# Altium integrated library Linear Technology Comparators.IntLib: 630 symbols (part 23 of 24)
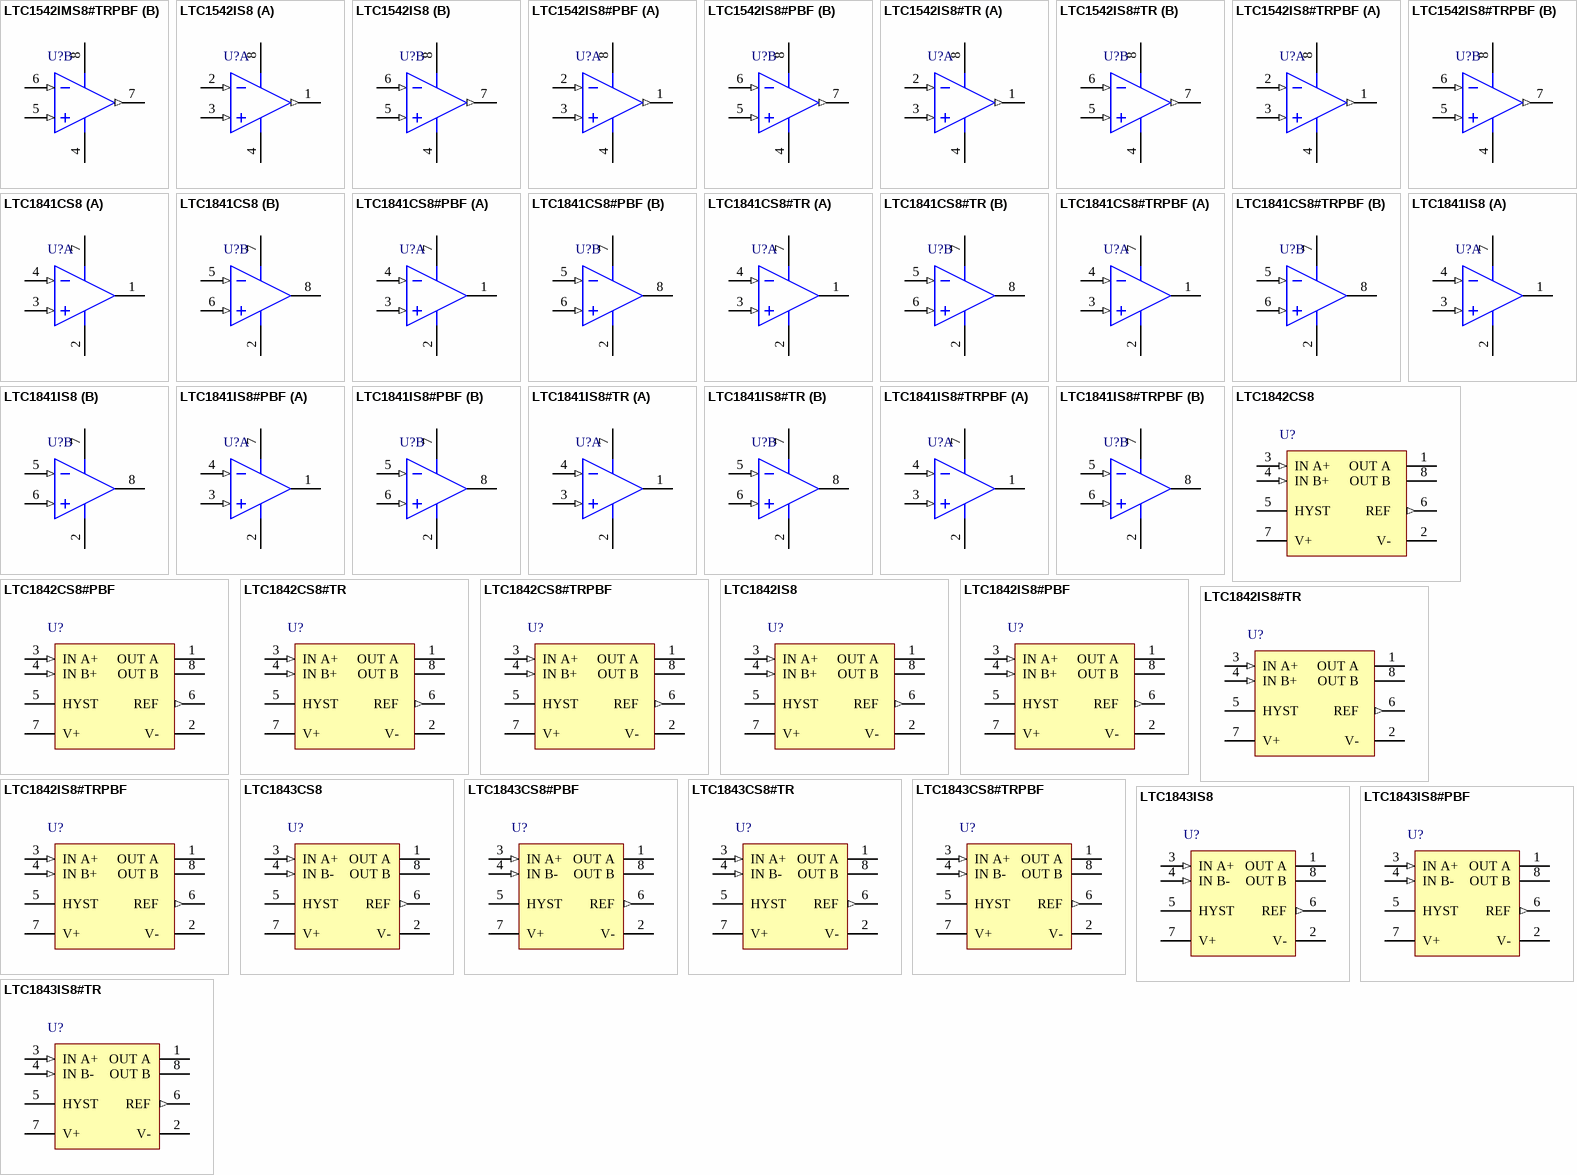
[diagram p46: symbols LTC1542IMS8#TRPBF to LTC1843IS8#TR]

## LTC1843IS8#TR
designator U?
Ultralow Power Comparator with Reference, 2 Channels, 2.5 to 11 V, -40 to +85 degC, 8-pin SOP (S8), Tape and Reel; Generic Part Number: LTC1843; Manufacturer: Linear Technology; PartNumber: LTC1843IS8#TR; Channels (#): 2; Prop Delay (us): 4; Supply Current (uA) Guaranteed: 5.7; Supply Current (uA) Typical: 3.5; Vos (mV) Guaranteed: 10; Vos (mV) Typical: 3; Vs Max (V): 11; PackageReference: S8; PackageDescription: 8-Pin Plastic Small Outline (Narrow .150 Inch), Body 4.9 x 3.9 mm, Pitch 1.27 mm; Supplier 1: Digi-Key; Supplier Part Number 1: LTC1843IS8#TR-ND; Features: Reference, Comparator; RoHS: N; Supply Voltage Range: 2.5 to 11 V; Vs Min (V): 2; Mounting Technology: Surface Mount; ComponentLink1Description: Manufacturer URL; ComponentLink1URL: http://www.linear.com/; ComponentLink2Description: Datasheet; ComponentLink2URL: http://cds.linear.com/docs/en/datasheet/184123f.pdf; ComponentLink3Description: Package Specification; ComponentLink3URL: http://cds.linear.com/docs/en/packaging/05081610_G_SO8.pdf
footprint LT-S8_N (SOP, 8-Leads, Body 4.9x3.9mm, Pitch 1.27mm, IPC Medium Density)
footprint LT-S8_L (SOP, 8-Leads, Body 4.9x3.9mm, Pitch 1.27mm, IPC High Density)
footprint LT-S8_M (SOP, 8-Leads, Body 4.9x3.9mm, Pitch 1.27mm, IPC Low Density)
pins: 1 OUT A (oc) "Comparator A Open-Drain Output. Output can typically sink greater than 20mA.", 2 V- (power) "Negative Supply.", 3 IN A+ (in) "Noninverting Input of Comparator A. Input common mode range extends from V - to V + - 1.3V. Input current is typically 10pA at 25degreesC.", 4 IN B- (in) "Inverting Input of Comparator B. Input common mode range extends from V - to V + - 1.3V. Input current is typically 10pA at 25degreesC.", 5 HYST "Hysteresis Input. Connect to REF if not used. Input voltage range is from VREF to VREF - 50mV.", 6 REF (out) "Reference Output. 1.182V with respect to V -. Can typically source greater than 1mA and sink 10mA at 25degreesC. Can drive 0.01mF bypass capacitor without oscillation.", 7 V+ (power) "Positive Supply. 2.5V to 11V.", 8 OUT B (oc) "Comparator B Open-Drain Output. Output can typically sink greater than 20mA."

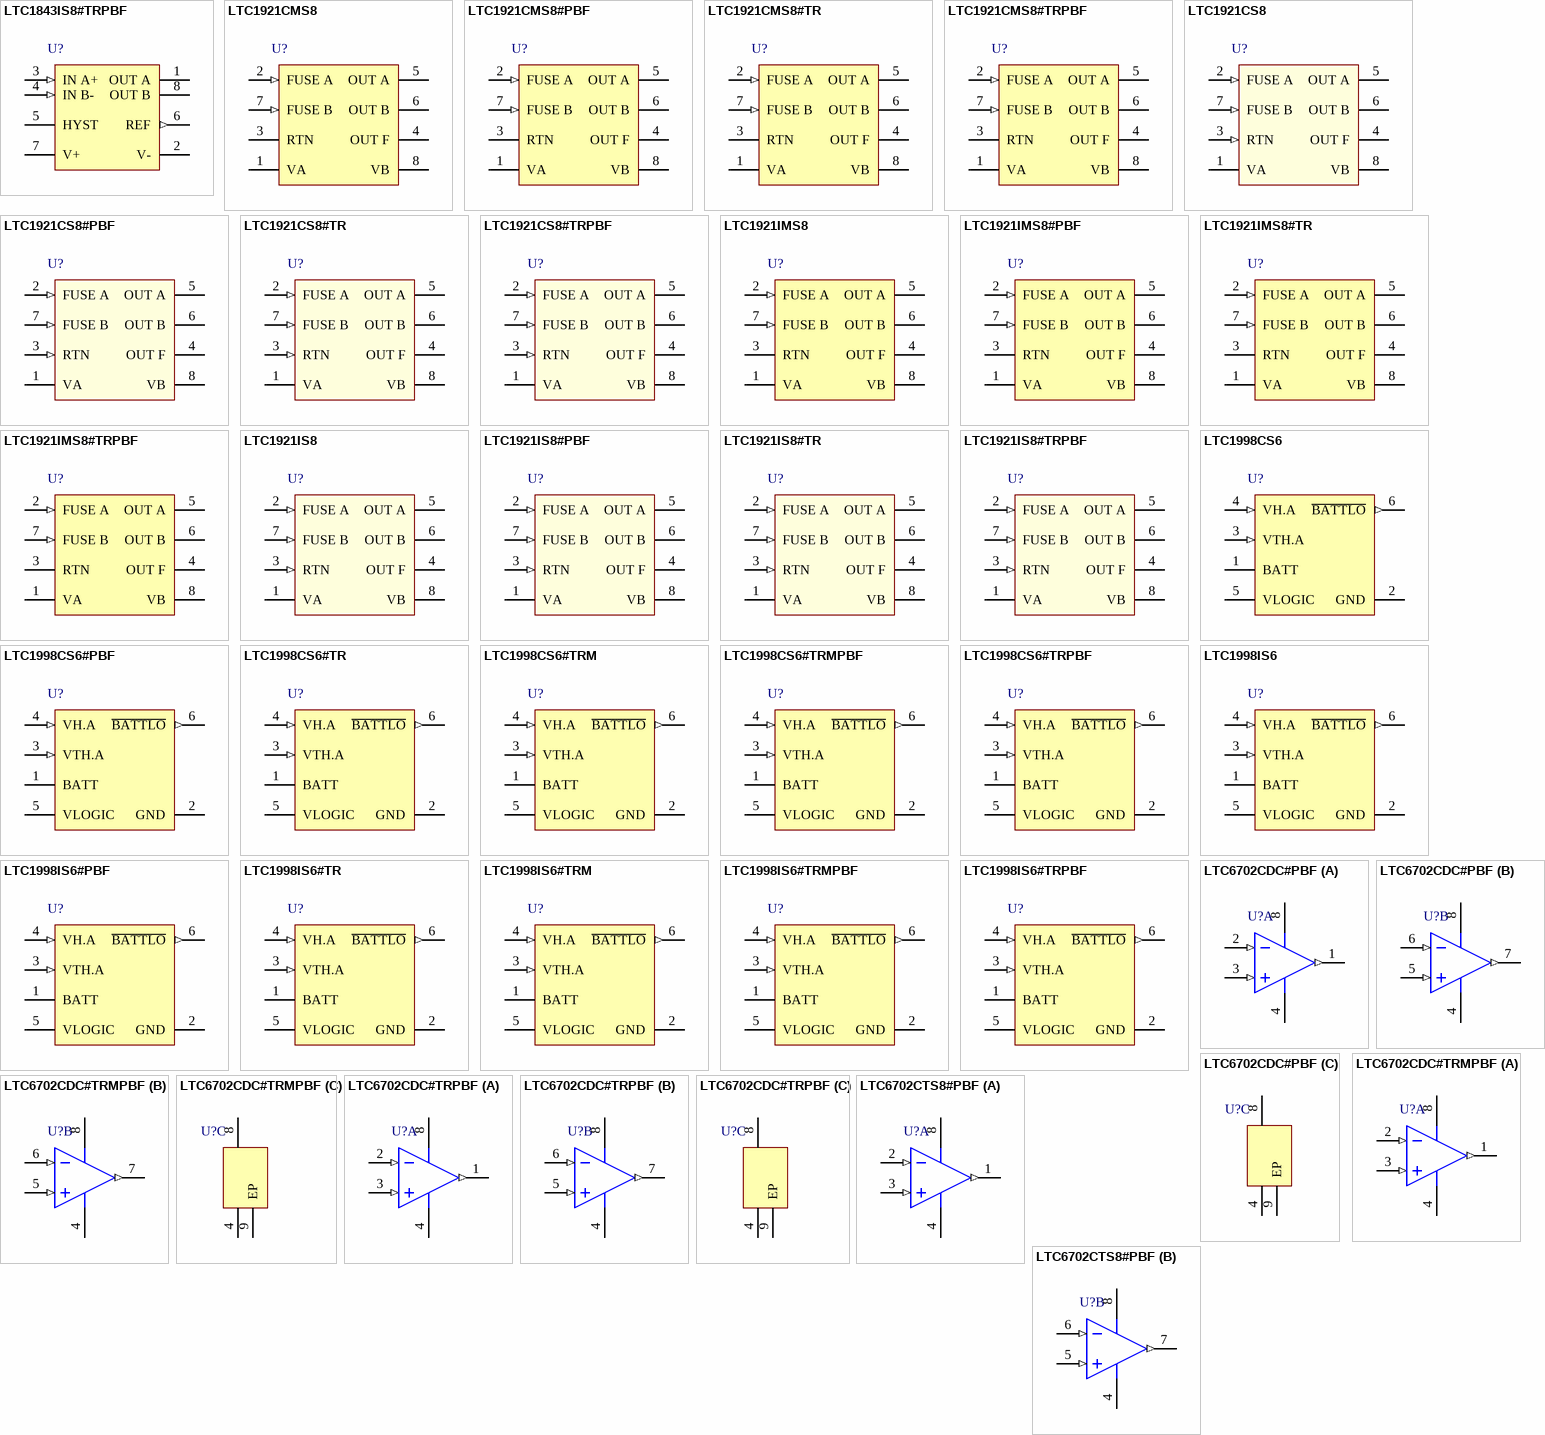
[diagram p23: symbols LTC1843IS8#TRPBF to LTC6702CTS8#PBF]

## LTC1843IS8#TRPBF
designator U?
Ultralow Power Comparator with Reference, 2 Channels, 2.5 to 11 V, -40 to +85 degC, 8-pin SOP (S8), Tape and Reel; Generic Part Number: LTC1843; Manufacturer: Linear Technology; PartNumber: LTC1843IS8#TRPBF; Channels (#): 2; Prop Delay (us): 4; Supply Current (uA) Guaranteed: 5.7; Supply Current (uA) Typical: 3.5; Vos (mV) Guaranteed: 10; Vos (mV) Typical: 3; Vs Max (V): 11; PackageReference: S8; PackageDescription: 8-Pin Plastic Small Outline (Narrow .150 Inch), Body 4.9 x 3.9 mm, Pitch 1.27 mm; Supplier 1: Digi-Key; Supplier Part Number 1: LTC1843IS8#TRPBF-ND; Features: Reference, Comparator; RoHS: Y; Supply Voltage Range: 2.5 to 11 V; Vs Min (V): 2; Mounting Technology: Surface Mount; ComponentLink1Description: Manufacturer URL; ComponentLink1URL: http://www.linear.com/; ComponentLink2Description: Datasheet; ComponentLink2URL: http://cds.linear.com/docs/en/datasheet/184123f.pdf; ComponentLink3Description: Package Specification; ComponentLink3URL: http://cds.linear.com/docs/en/packaging/05081610_G_SO8.pdf
footprint LT-S8_N (SOP, 8-Leads, Body 4.9x3.9mm, Pitch 1.27mm, IPC Medium Density)
footprint LT-S8_L (SOP, 8-Leads, Body 4.9x3.9mm, Pitch 1.27mm, IPC High Density)
footprint LT-S8_M (SOP, 8-Leads, Body 4.9x3.9mm, Pitch 1.27mm, IPC Low Density)
pins: 1 OUT A (oc) "Comparator A Open-Drain Output. Output can typically sink greater than 20mA.", 2 V- (power) "Negative Supply.", 3 IN A+ (in) "Noninverting Input of Comparator A. Input common mode range extends from V - to V + - 1.3V. Input current is typically 10pA at 25degreesC.", 4 IN B- (in) "Inverting Input of Comparator B. Input common mode range extends from V - to V + - 1.3V. Input current is typically 10pA at 25degreesC.", 5 HYST "Hysteresis Input. Connect to REF if not used. Input voltage range is from VREF to VREF - 50mV.", 6 REF (out) "Reference Output. 1.182V with respect to V -. Can typically source greater than 1mA and sink 10mA at 25degreesC. Can drive 0.01mF bypass capacitor without oscillation.", 7 V+ (power) "Positive Supply. 2.5V to 11V.", 8 OUT B (oc) "Comparator B Open-Drain Output. Output can typically sink greater than 20mA."

## LTC1921CMS8
designator U?
-48 V Supply and Fuse Monitor, 2 Channels, -10 to -80 V, 0 to +70 degC, 8-pin Plastic MSOP (MS8); Generic Part Number: LTC1921; Manufacturer: Linear Technology; PartNumber: LTC1921CMS8; Channels (#): 2; Prop Delay (us): 220; Supply Current (uA) Guaranteed: 250; Supply Current (uA) Typical: 160; Vs Max (V): 11; PackageReference: MS8; PackageDescription: 8-Pin Plastic MSOP, Body 3 x 3 mm, Pitch 0.65 mm; Features: Comparator; RoHS: N; Supply Voltage Range: -10 to -80 V; Vs Min (V): 2; Mounting Technology: Surface Mount; ComponentLink1Description: Manufacturer URL; ComponentLink1URL: http://www.linear.com/; ComponentLink2Description: Datasheet; ComponentLink2URL: http://cds.linear.com/docs/en/datasheet/1921f.pdf; ComponentLink3Description: Package Specification; ComponentLink3URL: http://cds.linear.com/docs/en/packaging/MSOP_8_05-08-1660.pdf
footprint LT-MS8_N (SOP, 8-Leads, Body 3x3mm, Pitch 0.65mm, IPC Medium Density)
footprint LT-MS8_L (SOP, 8-Leads, Body 3x3mm, Pitch 0.65mm, IPC High Density)
footprint LT-MS8_M (SOP, 8-Leads, Body 3x3mm, Pitch 0.65mm, IPC Low Density)
pins: 1 VA (power) "Supply to be Monitored. The voltage at this pin is compared to the valid supply voltage window and the result is output at OUT A (Pin 5). Supply current is drawn from VA as well as from VB (Pin 8).", 2 FUSE A (in) "This pin monitors the state of a fuse by comparing the voltage at this pin to the voltage at VA (Pin 1). The result is output at OUT F (Pin 4).", 3 RTN "Supply Return Reference. This pin must be at an equal or higher potential than the other pins and should be wired to the -48V return.", 4 OUT F "This pin indicates the state of the external fuses by ORing the comparisons made to the FUSE A and FUSE B pins.(See the datasheet)", 5 OUT A "Indicates the state of VA. If VA is within the specified voltage window (neither undervoltage nor overvoltage), OUT A will exhibit a high internal impedance to the OUT F pin. If VA is outside the specified overvoltage or (See Datasheet)", 6 OUT B "Indicates the state of VB. If VB is within the specified voltage window (neither undervoltage nor overvoltage), OUT B will exhibit a high internal impedance to the OUT A pin. If VB is outside the specified overvoltage or (See Datasheet)", 7 FUSE B (in) "This pin monitors the state of a fuse by comparing the voltage at this pin to the voltage at VB (Pin 8). The result is output at OUT F (Pin 4).", 8 VB (power) "Supply to be Monitored. The voltage at this pin is compared to the valid supply voltage window and the result is output at OUT B (Pin 6). Supply current is drawn from VB as well as from VA (Pin 1)."

## LTC1921CMS8#PBF
designator U?
-48 V Supply and Fuse Monitor, 2 Channels, -10 to -80 V, 0 to +70 degC, 8-pin Plastic MSOP (MS8); Generic Part Number: LTC1921; Manufacturer: Linear Technology; PartNumber: LTC1921CMS8#PBF; Channels (#): 2; Prop Delay (us): 220; Supply Current (uA) Guaranteed: 250; Supply Current (uA) Typical: 160; Vs Max (V): 11; PackageReference: MS8; PackageDescription: 8-Pin Plastic MSOP, Body 3 x 3 mm, Pitch 0.65 mm; Supplier 1: Digi-Key; Supplier Part Number 1: LTC1921CMS8#PBF-ND; Supplier 2: Newark; Supplier Part Number 2: 56M4320; Features: Comparator; RoHS: Y; Supply Voltage Range: -10 to -80 V; Vs Min (V): 2; Mounting Technology: Surface Mount; ComponentLink1Description: Manufacturer URL; ComponentLink1URL: http://www.linear.com/; ComponentLink2Description: Datasheet; ComponentLink2URL: http://cds.linear.com/docs/en/datasheet/1921f.pdf; ComponentLink3Description: Package Specification; ComponentLink3URL: http://cds.linear.com/docs/en/packaging/MSOP_8_05-08-1660.pdf
footprint LT-MS8_N (SOP, 8-Leads, Body 3x3mm, Pitch 0.65mm, IPC Medium Density)
footprint LT-MS8_L (SOP, 8-Leads, Body 3x3mm, Pitch 0.65mm, IPC High Density)
footprint LT-MS8_M (SOP, 8-Leads, Body 3x3mm, Pitch 0.65mm, IPC Low Density)
pins: 1 VA (power) "Supply to be Monitored. The voltage at this pin is compared to the valid supply voltage window and the result is output at OUT A (Pin 5). Supply current is drawn from VA as well as from VB (Pin 8).", 2 FUSE A (in) "This pin monitors the state of a fuse by comparing the voltage at this pin to the voltage at VA (Pin 1). The result is output at OUT F (Pin 4).", 3 RTN "Supply Return Reference. This pin must be at an equal or higher potential than the other pins and should be wired to the -48V return.", 4 OUT F "This pin indicates the state of the external fuses by ORing the comparisons made to the FUSE A and FUSE B pins.(See the datasheet)", 5 OUT A "Indicates the state of VA. If VA is within the specified voltage window (neither undervoltage nor overvoltage), OUT A will exhibit a high internal impedance to the OUT F pin. If VA is outside the specified overvoltage or (See Datasheet)", 6 OUT B "Indicates the state of VB. If VB is within the specified voltage window (neither undervoltage nor overvoltage), OUT B will exhibit a high internal impedance to the OUT A pin. If VB is outside the specified overvoltage or (See Datasheet)", 7 FUSE B (in) "This pin monitors the state of a fuse by comparing the voltage at this pin to the voltage at VB (Pin 8). The result is output at OUT F (Pin 4).", 8 VB (power) "Supply to be Monitored. The voltage at this pin is compared to the valid supply voltage window and the result is output at OUT B (Pin 6). Supply current is drawn from VB as well as from VA (Pin 1)."

## LTC1921CMS8#TR
designator U?
-48 V Supply and Fuse Monitor, 2 Channels, -10 to -80 V, 0 to +70 degC, 8-pin Plastic MSOP (MS8), Tape and Reel; Generic Part Number: LTC1921; Manufacturer: Linear Technology; PartNumber: LTC1921CMS8#TR; Channels (#): 2; Prop Delay (us): 220; Supply Current (uA) Guaranteed: 250; Supply Current (uA) Typical: 160; Vs Max (V): 11; PackageReference: MS8; PackageDescription: 8-Pin Plastic MSOP, Body 3 x 3 mm, Pitch 0.65 mm; Supplier 1: Digi-Key; Supplier Part Number 1: LTC1921CMS8TR-ND; Features: Comparator; RoHS: N; Supply Voltage Range: -10 to -80 V; Vs Min (V): 2; Mounting Technology: Surface Mount; ComponentLink1Description: Manufacturer URL; ComponentLink1URL: http://www.linear.com/; ComponentLink2Description: Datasheet; ComponentLink2URL: http://cds.linear.com/docs/en/datasheet/1921f.pdf; ComponentLink3Description: Package Specification; ComponentLink3URL: http://cds.linear.com/docs/en/packaging/MSOP_8_05-08-1660.pdf
footprint LT-MS8_N (SOP, 8-Leads, Body 3x3mm, Pitch 0.65mm, IPC Medium Density)
footprint LT-MS8_L (SOP, 8-Leads, Body 3x3mm, Pitch 0.65mm, IPC High Density)
footprint LT-MS8_M (SOP, 8-Leads, Body 3x3mm, Pitch 0.65mm, IPC Low Density)
pins: 1 VA (power) "Supply to be Monitored. The voltage at this pin is compared to the valid supply voltage window and the result is output at OUT A (Pin 5). Supply current is drawn from VA as well as from VB (Pin 8).", 2 FUSE A (in) "This pin monitors the state of a fuse by comparing the voltage at this pin to the voltage at VA (Pin 1). The result is output at OUT F (Pin 4).", 3 RTN "Supply Return Reference. This pin must be at an equal or higher potential than the other pins and should be wired to the -48V return.", 4 OUT F "This pin indicates the state of the external fuses by ORing the comparisons made to the FUSE A and FUSE B pins.(See the datasheet)", 5 OUT A "Indicates the state of VA. If VA is within the specified voltage window (neither undervoltage nor overvoltage), OUT A will exhibit a high internal impedance to the OUT F pin. If VA is outside the specified overvoltage or (See Datasheet)", 6 OUT B "Indicates the state of VB. If VB is within the specified voltage window (neither undervoltage nor overvoltage), OUT B will exhibit a high internal impedance to the OUT A pin. If VB is outside the specified overvoltage or (See Datasheet)", 7 FUSE B (in) "This pin monitors the state of a fuse by comparing the voltage at this pin to the voltage at VB (Pin 8). The result is output at OUT F (Pin 4).", 8 VB (power) "Supply to be Monitored. The voltage at this pin is compared to the valid supply voltage window and the result is output at OUT B (Pin 6). Supply current is drawn from VB as well as from VA (Pin 1)."

## LTC1921CMS8#TRPBF
designator U?
-48 V Supply and Fuse Monitor, 2 Channels, -10 to -80 V, 0 to +70 degC, 8-pin Plastic MSOP (MS8), Tape and Reel; Generic Part Number: LTC1921; Manufacturer: Linear Technology; PartNumber: LTC1921CMS8#TRPBF; Channels (#): 2; Prop Delay (us): 220; Supply Current (uA) Guaranteed: 250; Supply Current (uA) Typical: 160; Vs Max (V): 11; PackageReference: MS8; PackageDescription: 8-Pin Plastic MSOP, Body 3 x 3 mm, Pitch 0.65 mm; Supplier 1: Digi-Key; Supplier Part Number 1: LTC1921CMS8#TRPBF-ND; Features: Comparator; RoHS: Y; Supply Voltage Range: -10 to -80 V; Vs Min (V): 2; Mounting Technology: Surface Mount; ComponentLink1Description: Manufacturer URL; ComponentLink1URL: http://www.linear.com/; ComponentLink2Description: Datasheet; ComponentLink2URL: http://cds.linear.com/docs/en/datasheet/1921f.pdf; ComponentLink3Description: Package Specification; ComponentLink3URL: http://cds.linear.com/docs/en/packaging/MSOP_8_05-08-1660.pdf
footprint LT-MS8_N (SOP, 8-Leads, Body 3x3mm, Pitch 0.65mm, IPC Medium Density)
footprint LT-MS8_L (SOP, 8-Leads, Body 3x3mm, Pitch 0.65mm, IPC High Density)
footprint LT-MS8_M (SOP, 8-Leads, Body 3x3mm, Pitch 0.65mm, IPC Low Density)
pins: 1 VA (power) "Supply to be Monitored. The voltage at this pin is compared to the valid supply voltage window and the result is output at OUT A (Pin 5). Supply current is drawn from VA as well as from VB (Pin 8).", 2 FUSE A (in) "This pin monitors the state of a fuse by comparing the voltage at this pin to the voltage at VA (Pin 1). The result is output at OUT F (Pin 4).", 3 RTN "Supply Return Reference. This pin must be at an equal or higher potential than the other pins and should be wired to the -48V return.", 4 OUT F "This pin indicates the state of the external fuses by ORing the comparisons made to the FUSE A and FUSE B pins.(See the datasheet)", 5 OUT A "Indicates the state of VA. If VA is within the specified voltage window (neither undervoltage nor overvoltage), OUT A will exhibit a high internal impedance to the OUT F pin. If VA is outside the specified overvoltage or (See Datasheet)", 6 OUT B "Indicates the state of VB. If VB is within the specified voltage window (neither undervoltage nor overvoltage), OUT B will exhibit a high internal impedance to the OUT A pin. If VB is outside the specified overvoltage or (See Datasheet)", 7 FUSE B (in) "This pin monitors the state of a fuse by comparing the voltage at this pin to the voltage at VB (Pin 8). The result is output at OUT F (Pin 4).", 8 VB (power) "Supply to be Monitored. The voltage at this pin is compared to the valid supply voltage window and the result is output at OUT B (Pin 6). Supply current is drawn from VB as well as from VA (Pin 1)."

## LTC1921CS8
designator U?
-48 V Supply and Fuse Monitor, 2 Channels, -10 to -80 V, 0 to +70 degC, 8-pin SOP (S8); Generic Part Number: LTC1921; Manufacturer: Linear Technology; PartNumber: LTC1921CS8; Channels (#): 2; Prop Delay (us): 220; Supply Current (uA) Guaranteed: 250; Supply Current (uA) Typical: 160; Vs Max (V): 11; PackageReference: S8; PackageDescription: 8-Pin Plastic Small Outline (Narrow .150 Inch), Body 4.9 x 3.9 mm, Pitch 1.27 mm; Features: Comparator; RoHS: N; Supply Voltage Range: -10 to -80 V; Vs Min (V): 2; Mounting Technology: Surface Mount; ComponentLink1Description: Manufacturer URL; ComponentLink1URL: http://www.linear.com/; ComponentLink2Description: Datasheet; ComponentLink2URL: http://cds.linear.com/docs/en/datasheet/1921f.pdf; ComponentLink3Description: Package Specification; ComponentLink3URL: http://cds.linear.com/docs/en/packaging/05081610_G_SO8.pdf
footprint LT-S8_N (SOP, 8-Leads, Body 4.9x3.9mm, Pitch 1.27mm, IPC Medium Density)
footprint LT-S8_L (SOP, 8-Leads, Body 4.9x3.9mm, Pitch 1.27mm, IPC High Density)
footprint LT-S8_M (SOP, 8-Leads, Body 4.9x3.9mm, Pitch 1.27mm, IPC Low Density)
pins: 1 VA (power) "Supply to be Monitored. The voltage at this pin is compared to the valid supply voltage window and the result is output at OUT A (Pin 5). Supply current is drawn from VA as well as from VB (Pin 8).", 2 FUSE A (in) "This pin monitors the state of a fuse by comparing the voltage at this pin to the voltage at VA (Pin 1). The result is output at OUT F (Pin 4).", 3 RTN (in) "Supply Return Reference. This pin must be at an equal or higher potential than the other pins and should be wired to the -48V return.", 4 OUT F "This pin indicates the state of the external fuses by ORing thecomparisons made to the FUSE A and FUSE B pins(see the datasheet).", 5 OUT A "Indicates the state of VA. If VA is within the specified voltage window (neither undervoltage nor overvoltage), OUT A will exhibit a high internal impedance to the OUT F pin. If VA is outside the specified overvoltage or (See Datasheet)", 6 OUT B "Indicates the state of VB. If VB is within the specified voltage window (neither undervoltage nor overvoltage), OUT B will exhibit a high internal impedance to the OUT A pin. If VB is outside the specified overvoltage or (See Datasheet)", 7 FUSE B (in) "This pin monitors the state of a fuse by comparing the voltage at this pin to the voltage at VB (Pin 8). The result is output at OUT F (Pin 4).", 8 VB (power) "Supply to be Monitored. The voltage at this pin is compared to the valid supply voltage window and the result is output at OUT B (Pin 6). Supply current is drawn from VB as well as from VA (Pin 1)."

## LTC1921CS8#PBF
designator U?
-48 V Supply and Fuse Monitor, 2 Channels, -10 to -80 V, 0 to +70 degC, 8-pin SOP (S8); Generic Part Number: LTC1921; Manufacturer: Linear Technology; PartNumber: LTC1921CS8#PBF; Channels (#): 2; Prop Delay (us): 220; Supply Current (uA) Guaranteed: 250; Supply Current (uA) Typical: 160; Vs Max (V): 11; PackageReference: S8; PackageDescription: 8-Pin Plastic Small Outline (Narrow .150 Inch), Body 4.9 x 3.9 mm, Pitch 1.27 mm; Supplier 1: Digi-Key; Supplier Part Number 1: LTC1921CS8#PBF-ND; Features: Comparator; RoHS: Y; Supply Voltage Range: -10 to -80 V; Vs Min (V): 2; Mounting Technology: Surface Mount; ComponentLink1Description: Manufacturer URL; ComponentLink1URL: http://www.linear.com/; ComponentLink2Description: Datasheet; ComponentLink2URL: http://cds.linear.com/docs/en/datasheet/1921f.pdf; ComponentLink3Description: Package Specification; ComponentLink3URL: http://cds.linear.com/docs/en/packaging/05081610_G_SO8.pdf
footprint LT-S8_N (SOP, 8-Leads, Body 4.9x3.9mm, Pitch 1.27mm, IPC Medium Density)
footprint LT-S8_L (SOP, 8-Leads, Body 4.9x3.9mm, Pitch 1.27mm, IPC High Density)
footprint LT-S8_M (SOP, 8-Leads, Body 4.9x3.9mm, Pitch 1.27mm, IPC Low Density)
pins: 1 VA (power) "Supply to be Monitored. The voltage at this pin is compared to the valid supply voltage window and the result is output at OUT A (Pin 5). Supply current is drawn from VA as well as from VB (Pin 8).", 2 FUSE A (in) "This pin monitors the state of a fuse by comparing the voltage at this pin to the voltage at VA (Pin 1). The result is output at OUT F (Pin 4).", 3 RTN (in) "Supply Return Reference. This pin must be at an equal or higher potential than the other pins and should be wired to the -48V return.", 4 OUT F "This pin indicates the state of the external fuses by ORing thecomparisons made to the FUSE A and FUSE B pins(see the datasheet).", 5 OUT A "Indicates the state of VA. If VA is within the specified voltage window (neither undervoltage nor overvoltage), OUT A will exhibit a high internal impedance to the OUT F pin. If VA is outside the specified overvoltage or (See Datasheet)", 6 OUT B "Indicates the state of VB. If VB is within the specified voltage window (neither undervoltage nor overvoltage), OUT B will exhibit a high internal impedance to the OUT A pin. If VB is outside the specified overvoltage or (See Datasheet)", 7 FUSE B (in) "This pin monitors the state of a fuse by comparing the voltage at this pin to the voltage at VB (Pin 8). The result is output at OUT F (Pin 4).", 8 VB (power) "Supply to be Monitored. The voltage at this pin is compared to the valid supply voltage window and the result is output at OUT B (Pin 6). Supply current is drawn from VB as well as from VA (Pin 1)."

## LTC1921CS8#TR
designator U?
-48 V Supply and Fuse Monitor, 2 Channels, -10 to -80 V, 0 to +70 degC, 8-pin SOP (S8), Tape and Reel; Generic Part Number: LTC1921; Manufacturer: Linear Technology; PartNumber: LTC1921CS8#TR; Channels (#): 2; Prop Delay (us): 220; Supply Current (uA) Guaranteed: 250; Supply Current (uA) Typical: 160; Vs Max (V): 11; PackageReference: S8; PackageDescription: 8-Pin Plastic Small Outline (Narrow .150 Inch), Body 4.9 x 3.9 mm, Pitch 1.27 mm; Supplier 1: Digi-Key; Supplier Part Number 1: LTC1921CS8TR-ND; Features: Comparator; RoHS: N; Supply Voltage Range: -10 to -80 V; Vs Min (V): 2; Mounting Technology: Surface Mount; ComponentLink1Description: Manufacturer URL; ComponentLink1URL: http://www.linear.com/; ComponentLink2Description: Datasheet; ComponentLink2URL: http://cds.linear.com/docs/en/datasheet/1921f.pdf; ComponentLink3Description: Package Specification; ComponentLink3URL: http://cds.linear.com/docs/en/packaging/05081610_G_SO8.pdf
footprint LT-S8_N (SOP, 8-Leads, Body 4.9x3.9mm, Pitch 1.27mm, IPC Medium Density)
footprint LT-S8_L (SOP, 8-Leads, Body 4.9x3.9mm, Pitch 1.27mm, IPC High Density)
footprint LT-S8_M (SOP, 8-Leads, Body 4.9x3.9mm, Pitch 1.27mm, IPC Low Density)
pins: 1 VA (power) "Supply to be Monitored. The voltage at this pin is compared to the valid supply voltage window and the result is output at OUT A (Pin 5). Supply current is drawn from VA as well as from VB (Pin 8).", 2 FUSE A (in) "This pin monitors the state of a fuse by comparing the voltage at this pin to the voltage at VA (Pin 1). The result is output at OUT F (Pin 4).", 3 RTN (in) "Supply Return Reference. This pin must be at an equal or higher potential than the other pins and should be wired to the -48V return.", 4 OUT F "This pin indicates the state of the external fuses by ORing thecomparisons made to the FUSE A and FUSE B pins(see the datasheet).", 5 OUT A "Indicates the state of VA. If VA is within the specified voltage window (neither undervoltage nor overvoltage), OUT A will exhibit a high internal impedance to the OUT F pin. If VA is outside the specified overvoltage or (See Datasheet)", 6 OUT B "Indicates the state of VB. If VB is within the specified voltage window (neither undervoltage nor overvoltage), OUT B will exhibit a high internal impedance to the OUT A pin. If VB is outside the specified overvoltage or (See Datasheet)", 7 FUSE B (in) "This pin monitors the state of a fuse by comparing the voltage at this pin to the voltage at VB (Pin 8). The result is output at OUT F (Pin 4).", 8 VB (power) "Supply to be Monitored. The voltage at this pin is compared to the valid supply voltage window and the result is output at OUT B (Pin 6). Supply current is drawn from VB as well as from VA (Pin 1)."

## LTC1921CS8#TRPBF
designator U?
-48 V Supply and Fuse Monitor, 2 Channels, -10 to -80 V, 0 to +70 degC, 8-pin SOP (S8), Tape and Reel; Generic Part Number: LTC1921; Manufacturer: Linear Technology; PartNumber: LTC1921CS8#TRPBF; Channels (#): 2; Prop Delay (us): 220; Supply Current (uA) Guaranteed: 250; Supply Current (uA) Typical: 160; Vs Max (V): 11; PackageReference: S8; PackageDescription: 8-Pin Plastic Small Outline (Narrow .150 Inch), Body 4.9 x 3.9 mm, Pitch 1.27 mm; Supplier 1: Digi-Key; Supplier Part Number 1: LTC1921CS8#TRPBF-ND; Features: Comparator; RoHS: Y; Supply Voltage Range: -10 to -80 V; Vs Min (V): 2; Mounting Technology: Surface Mount; ComponentLink1Description: Manufacturer URL; ComponentLink1URL: http://www.linear.com/; ComponentLink2Description: Datasheet; ComponentLink2URL: http://cds.linear.com/docs/en/datasheet/1921f.pdf; ComponentLink3Description: Package Specification; ComponentLink3URL: http://cds.linear.com/docs/en/packaging/05081610_G_SO8.pdf
footprint LT-S8_N (SOP, 8-Leads, Body 4.9x3.9mm, Pitch 1.27mm, IPC Medium Density)
footprint LT-S8_L (SOP, 8-Leads, Body 4.9x3.9mm, Pitch 1.27mm, IPC High Density)
footprint LT-S8_M (SOP, 8-Leads, Body 4.9x3.9mm, Pitch 1.27mm, IPC Low Density)
pins: 1 VA (power) "Supply to be Monitored. The voltage at this pin is compared to the valid supply voltage window and the result is output at OUT A (Pin 5). Supply current is drawn from VA as well as from VB (Pin 8).", 2 FUSE A (in) "This pin monitors the state of a fuse by comparing the voltage at this pin to the voltage at VA (Pin 1). The result is output at OUT F (Pin 4).", 3 RTN (in) "Supply Return Reference. This pin must be at an equal or higher potential than the other pins and should be wired to the -48V return.", 4 OUT F "This pin indicates the state of the external fuses by ORing thecomparisons made to the FUSE A and FUSE B pins(see the datasheet).", 5 OUT A "Indicates the state of VA. If VA is within the specified voltage window (neither undervoltage nor overvoltage), OUT A will exhibit a high internal impedance to the OUT F pin. If VA is outside the specified overvoltage or (See Datasheet)", 6 OUT B "Indicates the state of VB. If VB is within the specified voltage window (neither undervoltage nor overvoltage), OUT B will exhibit a high internal impedance to the OUT A pin. If VB is outside the specified overvoltage or (See Datasheet)", 7 FUSE B (in) "This pin monitors the state of a fuse by comparing the voltage at this pin to the voltage at VB (Pin 8). The result is output at OUT F (Pin 4).", 8 VB (power) "Supply to be Monitored. The voltage at this pin is compared to the valid supply voltage window and the result is output at OUT B (Pin 6). Supply current is drawn from VB as well as from VA (Pin 1)."

## LTC1921IMS8
designator U?
-48 V Supply and Fuse Monitor, 2 Channels, -10 to -80 V, -40 to +85 degC, 8-pin Plastic MSOP (MS8); Generic Part Number: LTC1921; Manufacturer: Linear Technology; PartNumber: LTC1921IMS8; Channels (#): 2; Prop Delay (us): 220; Supply Current (uA) Guaranteed: 250; Supply Current (uA) Typical: 160; Vs Max (V): 11; PackageReference: MS8; PackageDescription: 8-Pin Plastic MSOP, Body 3 x 3 mm, Pitch 0.65 mm; Supplier 1: Digi-Key; Supplier Part Number 1: LTC1921IMS8-ND; Features: Comparator; RoHS: N; Supply Voltage Range: -10 to -80 V; Vs Min (V): 2; Mounting Technology: Surface Mount; ComponentLink1Description: Manufacturer URL; ComponentLink1URL: http://www.linear.com/; ComponentLink2Description: Datasheet; ComponentLink2URL: http://cds.linear.com/docs/en/datasheet/1921f.pdf; ComponentLink3Description: Package Specification; ComponentLink3URL: http://cds.linear.com/docs/en/packaging/MSOP_8_05-08-1660.pdf
footprint LT-MS8_N (SOP, 8-Leads, Body 3x3mm, Pitch 0.65mm, IPC Medium Density)
footprint LT-MS8_L (SOP, 8-Leads, Body 3x3mm, Pitch 0.65mm, IPC High Density)
footprint LT-MS8_M (SOP, 8-Leads, Body 3x3mm, Pitch 0.65mm, IPC Low Density)
pins: 1 VA (power) "Supply to be Monitored. The voltage at this pin is compared to the valid supply voltage window and the result is output at OUT A (Pin 5). Supply current is drawn from VA as well as from VB (Pin 8).", 2 FUSE A (in) "This pin monitors the state of a fuse by comparing the voltage at this pin to the voltage at VA (Pin 1). The result is output at OUT F (Pin 4).", 3 RTN "Supply Return Reference. This pin must be at an equal or higher potential than the other pins and should be wired to the -48V return.", 4 OUT F "This pin indicates the state of the external fuses by ORing the comparisons made to the FUSE A and FUSE B pins.(See the datasheet)", 5 OUT A "Indicates the state of VA. If VA is within the specified voltage window (neither undervoltage nor overvoltage), OUT A will exhibit a high internal impedance to the OUT F pin. If VA is outside the specified overvoltage or (See Datasheet)", 6 OUT B "Indicates the state of VB. If VB is within the specified voltage window (neither undervoltage nor overvoltage), OUT B will exhibit a high internal impedance to the OUT A pin. If VB is outside the specified overvoltage or (See Datasheet)", 7 FUSE B (in) "This pin monitors the state of a fuse by comparing the voltage at this pin to the voltage at VB (Pin 8). The result is output at OUT F (Pin 4).", 8 VB (power) "Supply to be Monitored. The voltage at this pin is compared to the valid supply voltage window and the result is output at OUT B (Pin 6). Supply current is drawn from VB as well as from VA (Pin 1)."

## LTC1921IMS8#PBF
designator U?
-48 V Supply and Fuse Monitor, 2 Channels, -10 to -80 V, -40 to +85 degC, 8-pin Plastic MSOP (MS8); Generic Part Number: LTC1921; Manufacturer: Linear Technology; PartNumber: LTC1921IMS8#PBF; Channels (#): 2; Prop Delay (us): 220; Supply Current (uA) Guaranteed: 250; Supply Current (uA) Typical: 160; Vs Max (V): 11; PackageReference: MS8; PackageDescription: 8-Pin Plastic MSOP, Body 3 x 3 mm, Pitch 0.65 mm; Supplier 1: Digi-Key; Supplier Part Number 1: LTC1921IMS8#PBF-ND; Supplier 2: Newark; Supplier Part Number 2: 56M4328; Features: Comparator; RoHS: Y; Supply Voltage Range: -10 to -80 V; Vs Min (V): 2; Mounting Technology: Surface Mount; ComponentLink1Description: Manufacturer URL; ComponentLink1URL: http://www.linear.com/; ComponentLink2Description: Datasheet; ComponentLink2URL: http://cds.linear.com/docs/en/datasheet/1921f.pdf; ComponentLink3Description: Package Specification; ComponentLink3URL: http://cds.linear.com/docs/en/packaging/MSOP_8_05-08-1660.pdf
footprint LT-MS8_N (SOP, 8-Leads, Body 3x3mm, Pitch 0.65mm, IPC Medium Density)
footprint LT-MS8_L (SOP, 8-Leads, Body 3x3mm, Pitch 0.65mm, IPC High Density)
footprint LT-MS8_M (SOP, 8-Leads, Body 3x3mm, Pitch 0.65mm, IPC Low Density)
pins: 1 VA (power) "Supply to be Monitored. The voltage at this pin is compared to the valid supply voltage window and the result is output at OUT A (Pin 5). Supply current is drawn from VA as well as from VB (Pin 8).", 2 FUSE A (in) "This pin monitors the state of a fuse by comparing the voltage at this pin to the voltage at VA (Pin 1). The result is output at OUT F (Pin 4).", 3 RTN "Supply Return Reference. This pin must be at an equal or higher potential than the other pins and should be wired to the -48V return.", 4 OUT F "This pin indicates the state of the external fuses by ORing the comparisons made to the FUSE A and FUSE B pins.(See the datasheet)", 5 OUT A "Indicates the state of VA. If VA is within the specified voltage window (neither undervoltage nor overvoltage), OUT A will exhibit a high internal impedance to the OUT F pin. If VA is outside the specified overvoltage or (See Datasheet)", 6 OUT B "Indicates the state of VB. If VB is within the specified voltage window (neither undervoltage nor overvoltage), OUT B will exhibit a high internal impedance to the OUT A pin. If VB is outside the specified overvoltage or (See Datasheet)", 7 FUSE B (in) "This pin monitors the state of a fuse by comparing the voltage at this pin to the voltage at VB (Pin 8). The result is output at OUT F (Pin 4).", 8 VB (power) "Supply to be Monitored. The voltage at this pin is compared to the valid supply voltage window and the result is output at OUT B (Pin 6). Supply current is drawn from VB as well as from VA (Pin 1)."

## LTC1921IMS8#TR
designator U?
-48 V Supply and Fuse Monitor, 2 Channels, -10 to -80 V, -40 to +85 degC, 8-pin Plastic MSOP (MS8), Tape and Reel; Generic Part Number: LTC1921; Manufacturer: Linear Technology; PartNumber: LTC1921IMS8#TR; Channels (#): 2; Prop Delay (us): 220; Supply Current (uA) Guaranteed: 250; Supply Current (uA) Typical: 160; Vs Max (V): 11; PackageReference: MS8; PackageDescription: 8-Pin Plastic MSOP, Body 3 x 3 mm, Pitch 0.65 mm; Supplier 1: Digi-Key; Supplier Part Number 1: LTC1921IMS8TR-ND; Features: Comparator; RoHS: N; Supply Voltage Range: -10 to -80 V; Vs Min (V): 2; Mounting Technology: Surface Mount; ComponentLink1Description: Manufacturer URL; ComponentLink1URL: http://www.linear.com/; ComponentLink2Description: Datasheet; ComponentLink2URL: http://cds.linear.com/docs/en/datasheet/1921f.pdf; ComponentLink3Description: Package Specification; ComponentLink3URL: http://cds.linear.com/docs/en/packaging/MSOP_8_05-08-1660.pdf
footprint LT-MS8_N (SOP, 8-Leads, Body 3x3mm, Pitch 0.65mm, IPC Medium Density)
footprint LT-MS8_L (SOP, 8-Leads, Body 3x3mm, Pitch 0.65mm, IPC High Density)
footprint LT-MS8_M (SOP, 8-Leads, Body 3x3mm, Pitch 0.65mm, IPC Low Density)
pins: 1 VA (power) "Supply to be Monitored. The voltage at this pin is compared to the valid supply voltage window and the result is output at OUT A (Pin 5). Supply current is drawn from VA as well as from VB (Pin 8).", 2 FUSE A (in) "This pin monitors the state of a fuse by comparing the voltage at this pin to the voltage at VA (Pin 1). The result is output at OUT F (Pin 4).", 3 RTN "Supply Return Reference. This pin must be at an equal or higher potential than the other pins and should be wired to the -48V return.", 4 OUT F "This pin indicates the state of the external fuses by ORing the comparisons made to the FUSE A and FUSE B pins.(See the datasheet)", 5 OUT A "Indicates the state of VA. If VA is within the specified voltage window (neither undervoltage nor overvoltage), OUT A will exhibit a high internal impedance to the OUT F pin. If VA is outside the specified overvoltage or (See Datasheet)", 6 OUT B "Indicates the state of VB. If VB is within the specified voltage window (neither undervoltage nor overvoltage), OUT B will exhibit a high internal impedance to the OUT A pin. If VB is outside the specified overvoltage or (See Datasheet)", 7 FUSE B (in) "This pin monitors the state of a fuse by comparing the voltage at this pin to the voltage at VB (Pin 8). The result is output at OUT F (Pin 4).", 8 VB (power) "Supply to be Monitored. The voltage at this pin is compared to the valid supply voltage window and the result is output at OUT B (Pin 6). Supply current is drawn from VB as well as from VA (Pin 1)."

## LTC1921IMS8#TRPBF
designator U?
-48 V Supply and Fuse Monitor, 2 Channels, -10 to -80 V, -40 to +85 degC, 8-pin Plastic MSOP (MS8), Tape and Reel; Generic Part Number: LTC1921; Manufacturer: Linear Technology; PartNumber: LTC1921IMS8#TRPBF; Channels (#): 2; Prop Delay (us): 220; Supply Current (uA) Guaranteed: 250; Supply Current (uA) Typical: 160; Vs Max (V): 11; PackageReference: MS8; PackageDescription: 8-Pin Plastic MSOP, Body 3 x 3 mm, Pitch 0.65 mm; Supplier 1: Digi-Key; Supplier Part Number 1: LTC1921IMS8#TRPBF-ND; Supplier 2: Newark; Supplier Part Number 2: 56M4330; Features: Comparator; RoHS: Y; Supply Voltage Range: -10 to -80 V; Vs Min (V): 2; Mounting Technology: Surface Mount; ComponentLink1Description: Manufacturer URL; ComponentLink1URL: http://www.linear.com/; ComponentLink2Description: Datasheet; ComponentLink2URL: http://cds.linear.com/docs/en/datasheet/1921f.pdf; ComponentLink3Description: Package Specification; ComponentLink3URL: http://cds.linear.com/docs/en/packaging/MSOP_8_05-08-1660.pdf
footprint LT-MS8_N (SOP, 8-Leads, Body 3x3mm, Pitch 0.65mm, IPC Medium Density)
footprint LT-MS8_L (SOP, 8-Leads, Body 3x3mm, Pitch 0.65mm, IPC High Density)
footprint LT-MS8_M (SOP, 8-Leads, Body 3x3mm, Pitch 0.65mm, IPC Low Density)
pins: 1 VA (power) "Supply to be Monitored. The voltage at this pin is compared to the valid supply voltage window and the result is output at OUT A (Pin 5). Supply current is drawn from VA as well as from VB (Pin 8).", 2 FUSE A (in) "This pin monitors the state of a fuse by comparing the voltage at this pin to the voltage at VA (Pin 1). The result is output at OUT F (Pin 4).", 3 RTN "Supply Return Reference. This pin must be at an equal or higher potential than the other pins and should be wired to the -48V return.", 4 OUT F "This pin indicates the state of the external fuses by ORing the comparisons made to the FUSE A and FUSE B pins.(See the datasheet)", 5 OUT A "Indicates the state of VA. If VA is within the specified voltage window (neither undervoltage nor overvoltage), OUT A will exhibit a high internal impedance to the OUT F pin. If VA is outside the specified overvoltage or (See Datasheet)", 6 OUT B "Indicates the state of VB. If VB is within the specified voltage window (neither undervoltage nor overvoltage), OUT B will exhibit a high internal impedance to the OUT A pin. If VB is outside the specified overvoltage or (See Datasheet)", 7 FUSE B (in) "This pin monitors the state of a fuse by comparing the voltage at this pin to the voltage at VB (Pin 8). The result is output at OUT F (Pin 4).", 8 VB (power) "Supply to be Monitored. The voltage at this pin is compared to the valid supply voltage window and the result is output at OUT B (Pin 6). Supply current is drawn from VB as well as from VA (Pin 1)."

## LTC1921IS8
designator U?
-48 V Supply and Fuse Monitor, 2 Channels, -10 to -80 V, -40 to +85 degC, 8-pin SOP (S8); Generic Part Number: LTC1921; Manufacturer: Linear Technology; PartNumber: LTC1921IS8; Channels (#): 2; Prop Delay (us): 220; Supply Current (uA) Guaranteed: 250; Supply Current (uA) Typical: 160; Vs Max (V): 11; PackageReference: S8; PackageDescription: 8-Pin Plastic Small Outline (Narrow .150 Inch), Body 4.9 x 3.9 mm, Pitch 1.27 mm; Supplier 1: Digi-Key; Supplier Part Number 1: LTC1921IS8-ND; Features: Comparator; RoHS: N; Supply Voltage Range: -10 to -80 V; Vs Min (V): 2; Mounting Technology: Surface Mount; ComponentLink1Description: Manufacturer URL; ComponentLink1URL: http://www.linear.com/; ComponentLink2Description: Datasheet; ComponentLink2URL: http://cds.linear.com/docs/en/datasheet/1921f.pdf; ComponentLink3Description: Package Specification; ComponentLink3URL: http://cds.linear.com/docs/en/packaging/05081610_G_SO8.pdf
footprint LT-S8_N (SOP, 8-Leads, Body 4.9x3.9mm, Pitch 1.27mm, IPC Medium Density)
footprint LT-S8_L (SOP, 8-Leads, Body 4.9x3.9mm, Pitch 1.27mm, IPC High Density)
footprint LT-S8_M (SOP, 8-Leads, Body 4.9x3.9mm, Pitch 1.27mm, IPC Low Density)
pins: 1 VA (power) "Supply to be Monitored. The voltage at this pin is compared to the valid supply voltage window and the result is output at OUT A (Pin 5). Supply current is drawn from VA as well as from VB (Pin 8).", 2 FUSE A (in) "This pin monitors the state of a fuse by comparing the voltage at this pin to the voltage at VA (Pin 1). The result is output at OUT F (Pin 4).", 3 RTN (in) "Supply Return Reference. This pin must be at an equal or higher potential than the other pins and should be wired to the -48V return.", 4 OUT F "This pin indicates the state of the external fuses by ORing thecomparisons made to the FUSE A and FUSE B pins(see the datasheet).", 5 OUT A "Indicates the state of VA. If VA is within the specified voltage window (neither undervoltage nor overvoltage), OUT A will exhibit a high internal impedance to the OUT F pin. If VA is outside the specified overvoltage or (See Datasheet)", 6 OUT B "Indicates the state of VB. If VB is within the specified voltage window (neither undervoltage nor overvoltage), OUT B will exhibit a high internal impedance to the OUT A pin. If VB is outside the specified overvoltage or (See Datasheet)", 7 FUSE B (in) "This pin monitors the state of a fuse by comparing the voltage at this pin to the voltage at VB (Pin 8). The result is output at OUT F (Pin 4).", 8 VB (power) "Supply to be Monitored. The voltage at this pin is compared to the valid supply voltage window and the result is output at OUT B (Pin 6). Supply current is drawn from VB as well as from VA (Pin 1)."

## LTC1921IS8#PBF
designator U?
-48 V Supply and Fuse Monitor, 2 Channels, -10 to -80 V, -40 to +85 degC, 8-pin SOP (S8); Generic Part Number: LTC1921; Manufacturer: Linear Technology; PartNumber: LTC1921IS8#PBF; Channels (#): 2; Prop Delay (us): 220; Supply Current (uA) Guaranteed: 250; Supply Current (uA) Typical: 160; Vs Max (V): 11; PackageReference: S8; PackageDescription: 8-Pin Plastic Small Outline (Narrow .150 Inch), Body 4.9 x 3.9 mm, Pitch 1.27 mm; Supplier 1: Digi-Key; Supplier Part Number 1: LTC1921IS8#PBF-ND; Features: Comparator; RoHS: Y; Supply Voltage Range: -10 to -80 V; Vs Min (V): 2; Mounting Technology: Surface Mount; ComponentLink1Description: Manufacturer URL; ComponentLink1URL: http://www.linear.com/; ComponentLink2Description: Datasheet; ComponentLink2URL: http://cds.linear.com/docs/en/datasheet/1921f.pdf; ComponentLink3Description: Package Specification; ComponentLink3URL: http://cds.linear.com/docs/en/packaging/05081610_G_SO8.pdf
footprint LT-S8_N (SOP, 8-Leads, Body 4.9x3.9mm, Pitch 1.27mm, IPC Medium Density)
footprint LT-S8_L (SOP, 8-Leads, Body 4.9x3.9mm, Pitch 1.27mm, IPC High Density)
footprint LT-S8_M (SOP, 8-Leads, Body 4.9x3.9mm, Pitch 1.27mm, IPC Low Density)
pins: 1 VA (power) "Supply to be Monitored. The voltage at this pin is compared to the valid supply voltage window and the result is output at OUT A (Pin 5). Supply current is drawn from VA as well as from VB (Pin 8).", 2 FUSE A (in) "This pin monitors the state of a fuse by comparing the voltage at this pin to the voltage at VA (Pin 1). The result is output at OUT F (Pin 4).", 3 RTN (in) "Supply Return Reference. This pin must be at an equal or higher potential than the other pins and should be wired to the -48V return.", 4 OUT F "This pin indicates the state of the external fuses by ORing thecomparisons made to the FUSE A and FUSE B pins(see the datasheet).", 5 OUT A "Indicates the state of VA. If VA is within the specified voltage window (neither undervoltage nor overvoltage), OUT A will exhibit a high internal impedance to the OUT F pin. If VA is outside the specified overvoltage or (See Datasheet)", 6 OUT B "Indicates the state of VB. If VB is within the specified voltage window (neither undervoltage nor overvoltage), OUT B will exhibit a high internal impedance to the OUT A pin. If VB is outside the specified overvoltage or (See Datasheet)", 7 FUSE B (in) "This pin monitors the state of a fuse by comparing the voltage at this pin to the voltage at VB (Pin 8). The result is output at OUT F (Pin 4).", 8 VB (power) "Supply to be Monitored. The voltage at this pin is compared to the valid supply voltage window and the result is output at OUT B (Pin 6). Supply current is drawn from VB as well as from VA (Pin 1)."

## LTC1921IS8#TR
designator U?
-48 V Supply and Fuse Monitor, 2 Channels, -10 to -80 V, -40 to +85 degC, 8-pin SOP (S8), Tape and Reel; Generic Part Number: LTC1921; Manufacturer: Linear Technology; PartNumber: LTC1921IS8#TR; Channels (#): 2; Prop Delay (us): 220; Supply Current (uA) Guaranteed: 250; Supply Current (uA) Typical: 160; Vs Max (V): 11; PackageReference: S8; PackageDescription: 8-Pin Plastic Small Outline (Narrow .150 Inch), Body 4.9 x 3.9 mm, Pitch 1.27 mm; Supplier 1: Digi-Key; Supplier Part Number 1: LTC1921IS8TR-ND; Features: Comparator; RoHS: N; Supply Voltage Range: -10 to -80 V; Vs Min (V): 2; Mounting Technology: Surface Mount; ComponentLink1Description: Manufacturer URL; ComponentLink1URL: http://www.linear.com/; ComponentLink2Description: Datasheet; ComponentLink2URL: http://cds.linear.com/docs/en/datasheet/1921f.pdf; ComponentLink3Description: Package Specification; ComponentLink3URL: http://cds.linear.com/docs/en/packaging/05081610_G_SO8.pdf
footprint LT-S8_N (SOP, 8-Leads, Body 4.9x3.9mm, Pitch 1.27mm, IPC Medium Density)
footprint LT-S8_L (SOP, 8-Leads, Body 4.9x3.9mm, Pitch 1.27mm, IPC High Density)
footprint LT-S8_M (SOP, 8-Leads, Body 4.9x3.9mm, Pitch 1.27mm, IPC Low Density)
pins: 1 VA (power) "Supply to be Monitored. The voltage at this pin is compared to the valid supply voltage window and the result is output at OUT A (Pin 5). Supply current is drawn from VA as well as from VB (Pin 8).", 2 FUSE A (in) "This pin monitors the state of a fuse by comparing the voltage at this pin to the voltage at VA (Pin 1). The result is output at OUT F (Pin 4).", 3 RTN (in) "Supply Return Reference. This pin must be at an equal or higher potential than the other pins and should be wired to the -48V return.", 4 OUT F "This pin indicates the state of the external fuses by ORing thecomparisons made to the FUSE A and FUSE B pins(see the datasheet).", 5 OUT A "Indicates the state of VA. If VA is within the specified voltage window (neither undervoltage nor overvoltage), OUT A will exhibit a high internal impedance to the OUT F pin. If VA is outside the specified overvoltage or (See Datasheet)", 6 OUT B "Indicates the state of VB. If VB is within the specified voltage window (neither undervoltage nor overvoltage), OUT B will exhibit a high internal impedance to the OUT A pin. If VB is outside the specified overvoltage or (See Datasheet)", 7 FUSE B (in) "This pin monitors the state of a fuse by comparing the voltage at this pin to the voltage at VB (Pin 8). The result is output at OUT F (Pin 4).", 8 VB (power) "Supply to be Monitored. The voltage at this pin is compared to the valid supply voltage window and the result is output at OUT B (Pin 6). Supply current is drawn from VB as well as from VA (Pin 1)."

## LTC1921IS8#TRPBF
designator U?
-48 V Supply and Fuse Monitor, 2 Channels, -10 to -80 V, -40 to +85 degC, 8-pin SOP (S8), Tape and Reel; Generic Part Number: LTC1921; Manufacturer: Linear Technology; PartNumber: LTC1921IS8#TRPBF; Channels (#): 2; Prop Delay (us): 220; Supply Current (uA) Guaranteed: 250; Supply Current (uA) Typical: 160; Vs Max (V): 11; PackageReference: S8; PackageDescription: 8-Pin Plastic Small Outline (Narrow .150 Inch), Body 4.9 x 3.9 mm, Pitch 1.27 mm; Supplier 1: Digi-Key; Supplier Part Number 1: LTC1921IS8#TRPBF-ND; Features: Comparator; RoHS: Y; Supply Voltage Range: -10 to -80 V; Vs Min (V): 2; Mounting Technology: Surface Mount; ComponentLink1Description: Manufacturer URL; ComponentLink1URL: http://www.linear.com/; ComponentLink2Description: Datasheet; ComponentLink2URL: http://cds.linear.com/docs/en/datasheet/1921f.pdf; ComponentLink3Description: Package Specification; ComponentLink3URL: http://cds.linear.com/docs/en/packaging/05081610_G_SO8.pdf
footprint LT-S8_N (SOP, 8-Leads, Body 4.9x3.9mm, Pitch 1.27mm, IPC Medium Density)
footprint LT-S8_L (SOP, 8-Leads, Body 4.9x3.9mm, Pitch 1.27mm, IPC High Density)
footprint LT-S8_M (SOP, 8-Leads, Body 4.9x3.9mm, Pitch 1.27mm, IPC Low Density)
pins: 1 VA (power) "Supply to be Monitored. The voltage at this pin is compared to the valid supply voltage window and the result is output at OUT A (Pin 5). Supply current is drawn from VA as well as from VB (Pin 8).", 2 FUSE A (in) "This pin monitors the state of a fuse by comparing the voltage at this pin to the voltage at VA (Pin 1). The result is output at OUT F (Pin 4).", 3 RTN (in) "Supply Return Reference. This pin must be at an equal or higher potential than the other pins and should be wired to the -48V return.", 4 OUT F "This pin indicates the state of the external fuses by ORing thecomparisons made to the FUSE A and FUSE B pins(see the datasheet).", 5 OUT A "Indicates the state of VA. If VA is within the specified voltage window (neither undervoltage nor overvoltage), OUT A will exhibit a high internal impedance to the OUT F pin. If VA is outside the specified overvoltage or (See Datasheet)", 6 OUT B "Indicates the state of VB. If VB is within the specified voltage window (neither undervoltage nor overvoltage), OUT B will exhibit a high internal impedance to the OUT A pin. If VB is outside the specified overvoltage or (See Datasheet)", 7 FUSE B (in) "This pin monitors the state of a fuse by comparing the voltage at this pin to the voltage at VB (Pin 8). The result is output at OUT F (Pin 4).", 8 VB (power) "Supply to be Monitored. The voltage at this pin is compared to the valid supply voltage window and the result is output at OUT B (Pin 6). Supply current is drawn from VB as well as from VA (Pin 1)."